# EAGLE library part AT91SAM7X*-AU (library balto)
Highly integrated Flash microcontrollers based on the 32-bit ARM RISC processor 512/256/128 Kbyte high-speed Flash and 128/64/32 Kbyte SRAM, a large set of peripherals, including an 802.3 Ethernet MAC and a CAN controller Source: http://www.atmel.com/dyn/resources/prod_documents/6120s.pdf
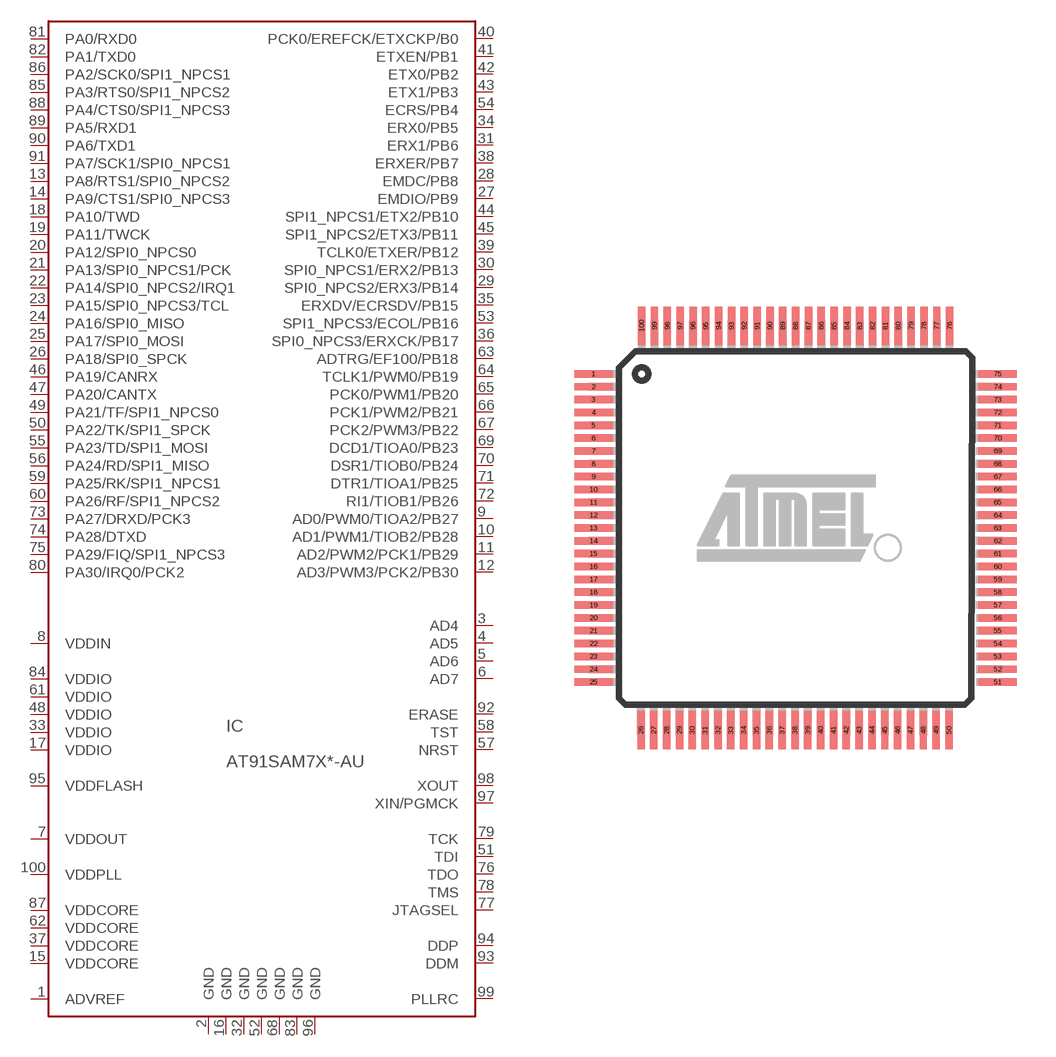
[diagram p11: symbol with the pads of LQFP100; footprint LQFP100]

Designator prefix IC

## AT91SAM7X128-AU, AT91SAM7X256-AU, AT91SAM7X512-AU  [LQFP100]
1  ADVREF
2  GND
3  AD4
4  AD5
5  AD6
6  AD7
7  VDDOUT
8  VDDIN
9  AD0/PWM0/TIOA2/PB27
10  AD1/PWM1/TIOB2/PB28
11  AD2/PWM2/PCK1/PB29
12  AD3/PWM3/PCK2/PB30
13  PA8/RTS1/SPI0_NPCS2
14  PA9/CTS1/SPI0_NPCS3
15  VDDCORE
16  GND
17  VDDIO
18  PA10/TWD
19  PA11/TWCK
20  PA12/SPI0_NPCS0
21  PA13/SPI0_NPCS1/PCK
22  PA14/SPI0_NPCS2/IRQ1
23  PA15/SPI0_NPCS3/TCL
24  PA16/SPI0_MISO
25  PA17/SPI0_MOSI
26  PA18/SPI0_SPCK
27  EMDIO/PB9
28  EMDC/PB8
29  SPI0_NPCS2/ERX3/PB14
30  SPI0_NPCS1/ERX2/PB13
31  ERX1/PB6
32  GND
33  VDDIO
34  ERX0/PB5
35  ERXDV/ECRSDV/PB15
36  SPI0_NPCS3/ERXCK/PB17
37  VDDCORE
38  ERXER/PB7
39  TCLK0/ETXER/PB12
40  PCK0/EREFCK/ETXCKP/B0
41  ETXEN/PB1
42  ETX0/PB2
43  ETX1/PB3
44  SPI1_NPCS1/ETX2/PB10
45  SPI1_NPCS2/ETX3/PB11
46  PA19/CANRX
47  PA20/CANTX
48  VDDIO
49  PA21/TF/SPI1_NPCS0
50  PA22/TK/SPI1_SPCK
51  TDI
52  GND
53  SPI1_NPCS3/ECOL/PB16
54  ECRS/PB4
55  PA23/TD/SPI1_MOSI
56  PA24/RD/SPI1_MISO
57  NRST
58  TST
59  PA25/RK/SPI1_NPCS1
60  PA26/RF/SPI1_NPCS2
61  VDDIO
62  VDDCORE
63  ADTRG/EF100/PB18
64  TCLK1/PWM0/PB19
65  PCK0/PWM1/PB20
66  PCK1/PWM2/PB21
67  PCK2/PWM3/PB22
68  GND
69  DCD1/TIOA0/PB23
70  DSR1/TIOB0/PB24
71  DTR1/TIOA1/PB25
72  RI1/TIOB1/PB26
73  PA27/DRXD/PCK3
74  PA28/DTXD
75  PA29/FIQ/SPI1_NPCS3
76  TDO
77  JTAGSEL
78  TMS
79  TCK
80  PA30/IRQ0/PCK2
81  PA0/RXD0
82  PA1/TXD0
83  GND
84  VDDIO
85  PA3/RTS0/SPI1_NPCS2
86  PA2/SCK0/SPI1_NPCS1
87  VDDCORE
88  PA4/CTS0/SPI1_NPCS3
89  PA5/RXD1
90  PA6/TXD1
91  PA7/SCK1/SPI0_NPCS1
92  ERASE
93  DDM
94  DDP
95  VDDFLASH
96  GND
97  XIN/PGMCK
98  XOUT
99  PLLRC
100  VDDPLL

## Footprint LQFP100 (pad centres in mm)
LQFP 100 Source: 6120s.pdf
smd 1.5 x 0.29: 1 -7.875,6; 2 -7.875,5.5; 3 -7.875,5; 4 -7.875,4.5; 5 -7.875,4; 6 -7.875,3.5; 7 -7.875,3; 8 -7.875,2.5; 9 -7.875,2; 10 -7.875,1.5; 11 -7.875,1; 12 -7.875,0.5; 13 -7.875,0; 14 -7.875,-0.5; 15 -7.875,-1; 16 -7.875,-1.5; 17 -7.875,-2; 18 -7.875,-2.5; 19 -7.875,-3; 20 -7.875,-3.5; 21 -7.875,-4; 22 -7.875,-4.5; 23 -7.875,-5; 24 -7.875,-5.5; 25 -7.875,-6; 51 7.875,-6; 52 7.875,-5.5; 53 7.875,-5; 54 7.875,-4.5; 55 7.875,-4; 56 7.875,-3.5; 57 7.875,-3; 58 7.875,-2.5; 59 7.875,-2; 60 7.875,-1.5; 61 7.875,-1; 62 7.875,-0.5; 63 7.875,0; 64 7.875,0.5; 65 7.875,1; 66 7.875,1.5; 67 7.875,2; 68 7.875,2.5; 69 7.875,3; 70 7.875,3.5; 71 7.875,4; 72 7.875,4.5; 73 7.875,5; 74 7.875,5.5; 75 7.875,6
smd 0.29 x 1.5: 26 -6.025,-7.875; 27 -5.525,-7.875; 28 -5.025,-7.875; 29 -4.525,-7.875; 30 -4.025,-7.875; 31 -3.525,-7.875; 32 -3.025,-7.875; 33 -2.525,-7.875; 34 -2.025,-7.875; 35 -1.525,-7.875; 36 -1.025,-7.875; 37 -0.525,-7.875; 38 -0.025,-7.875; 39 0.475,-7.875; 40 0.975,-7.875; 41 1.475,-7.875; 42 1.975,-7.875; 43 2.475,-7.875; 44 2.975,-7.875; 45 3.475,-7.875; 46 3.975,-7.875; 47 4.475,-7.875; 48 4.975,-7.875; 49 5.475,-7.875; 50 5.975,-7.875; 76 6,7.875; 77 5.5,7.875; 78 5,7.875; 79 4.5,7.875; 80 4,7.875; 81 3.5,7.875; 82 3,7.875; 83 2.5,7.875; 84 2,7.875; 85 1.5,7.875; 86 1,7.875; 87 0.5,7.875; 88 0,7.875; 89 -0.5,7.875; 90 -1,7.875; 91 -1.5,7.875; 92 -2,7.875; 93 -2.5,7.875; 94 -3,7.875; 95 -3.5,7.875; 96 -4,7.875; 97 -4.5,7.875; 98 -5,7.875; 99 -5.5,7.875; 100 -6,7.875